# Altium footprint library LKS_motor_0310.PcbLib: 16 footprints
Each footprint in its own frame and in the unit in brackets; x right, y up, seen from the top. Pads: shape width x height; smd on the part's side, far side on the other; paste and mask are expansions set on the pad; w line width, h text height; cw(c..) or ccw(c..) is an arc to the next point about the centre after c.
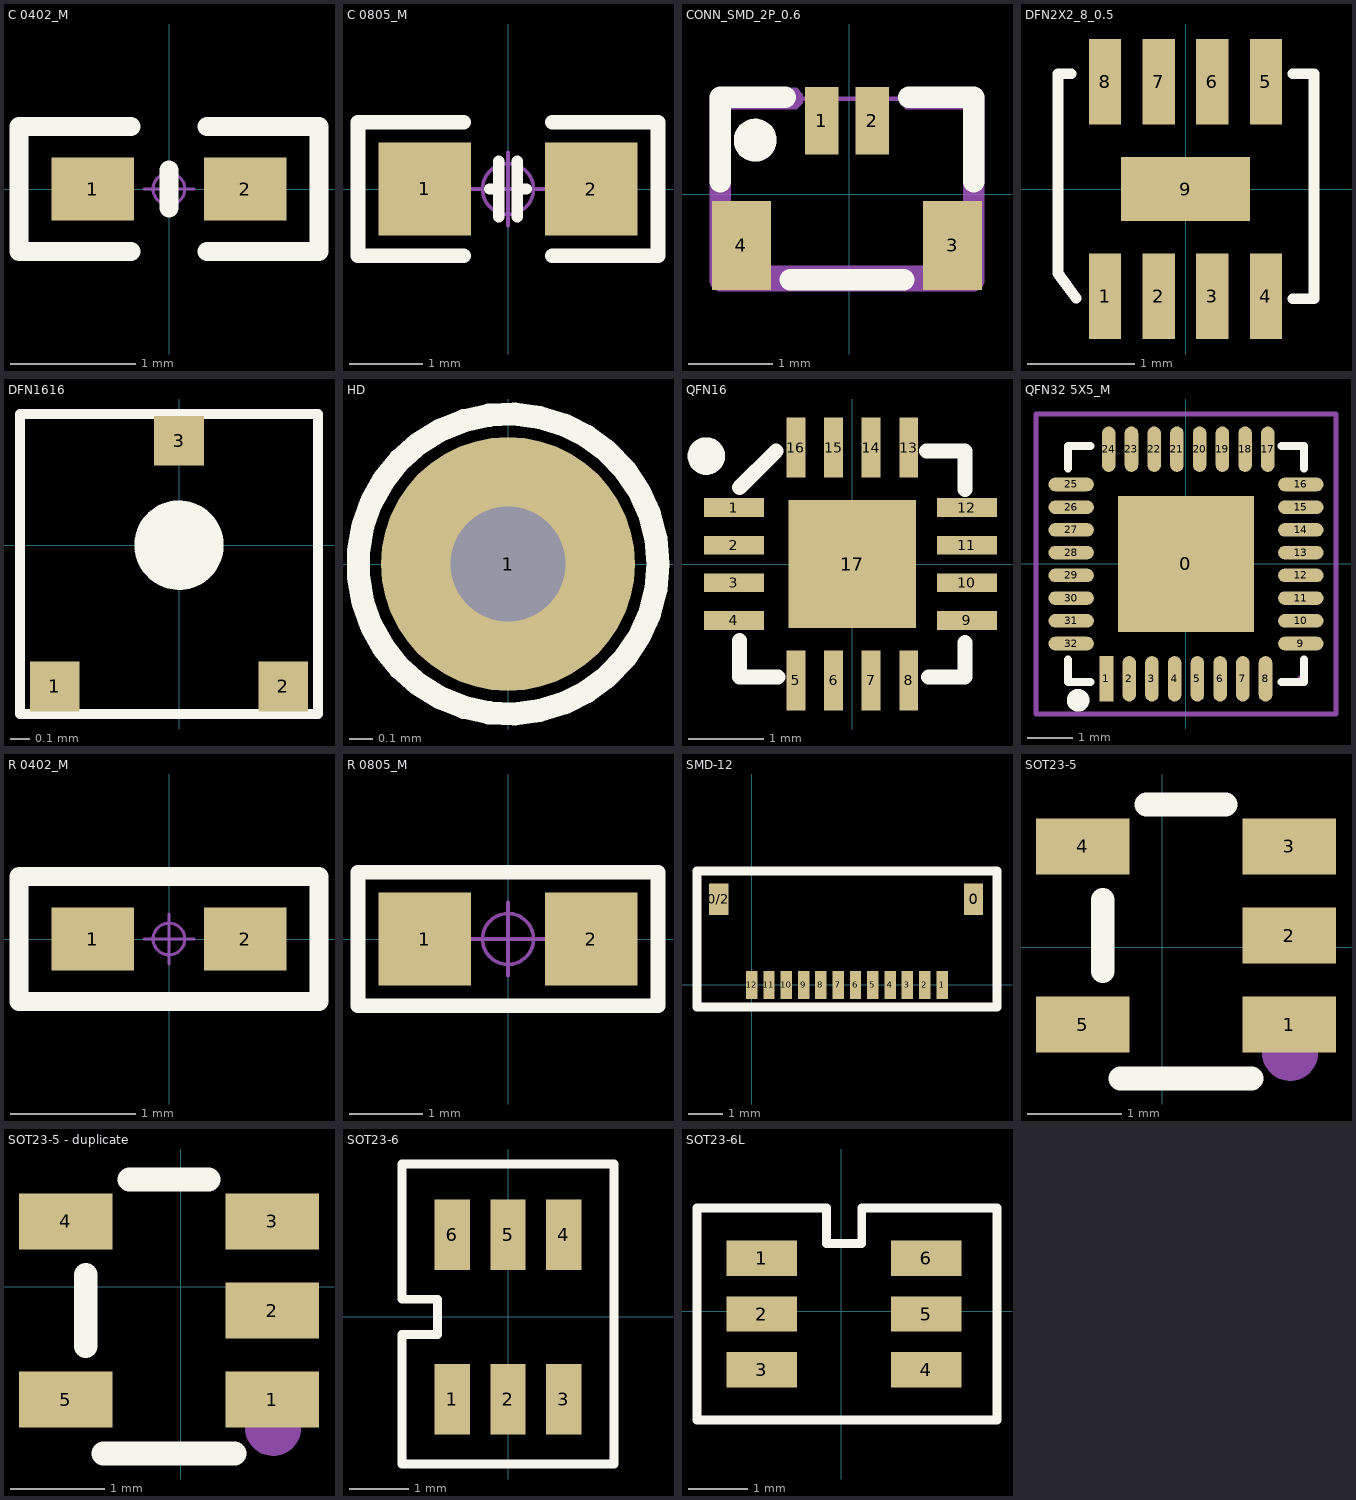
[diagram p0: the footprints below, top view; thin cyan lines are the x and y axes]

## C 0402_M [mil] "无极性贴片电容"
pads (2):
  rect 26x20 smd: 1(-24,0) 2(24,0)
Top Overlay:
  lines w6: -12,-19.68 -47.24,-19.68 -47.24,19.68 -12,19.68 ; 0,-6 0,6 ; 12,-19.68 47.24,-19.68 47.24,19.68 12,19.68
Mechanical 15:
  circle w1: c0,0 r5
  lines w1: -7.87,0 7.87,0 ; 0,-7.87 0,7.87
3D body "C 0402.STEP": height 20.68, standoff 0.21, extent -19.69,-10.24 19.69,10.24

## C 0805_M [mil] "无极性贴片电容"
height 19.68
pads (2):
  rect 50x50 smd: 1(-45,0) 2(45,0)
Top Overlay:
  lines w6: -10,0 -5,0 ; -5,-15 -5,15 ; 5,-15 5,15 ; 5,0 10,0
  lines w8: -24,-36 -81,-36 -81,36 -24,36 ; 24,-36 81,-36 81,36 24,36
Mechanical 15:
  circle w1.97: c0,0 r13.78
  lines w1.97: -19.69,0 19.69,0 ; 0,-19.69 0,19.69
3D body "C 0805.STEP": height 20.08, standoff -0.39, extent -39.37,-24.02 39.37,24.02

## CONN_SMD_2P_0.6 [mm]
pads (4):
  rect 0.4x0.8 smd: 1(-0.324,0.871) 2(0.276,0.871)
  rect 0.7x1.05 smd: 3(1.226,-0.604) 4(-1.274,-0.604)
Top Overlay:
  circle w0.254: c-1.11,0.642 r0.127
  lines w0.254: -1.524,0.153 -1.524,1.15 -0.755,1.15 ; -0.693,-1.009 0.645,-1.009 ; 0.707,1.15 1.476,1.15 1.476,0.153
Mechanical 6:
  region: -0.674,1.007 -1.397,1.007 -1.397,-0.889 1.349,-0.889 1.349,1.007 0.726,1.007 0.673,1.007 0.599,1.081 0.599,1.187 0.673,1.261 0.726,1.261 1.476,1.261 1.501,1.261 1.548,1.242 1.584,1.206 1.603,1.159 1.603,1.134 1.603,-1.016 1.603,-1.041 1.584,-1.088 1.548,-1.124 1.501,-1.143 1.476,-1.143 -1.524,-1.143 -1.549,-1.143 -1.596,-1.124 -1.632,-1.088 -1.651,-1.041 -1.651,-1.016 -1.651,1.134 -1.651,1.159 -1.632,1.206 -1.596,1.242 -1.549,1.261 -1.524,1.261 -0.674,1.261 -0.621,1.261 -0.547,1.187 -0.547,1.081 -0.621,1.007 -0.674,1.007
Mechanical 15:
  region: 0.376,0.671 0.176,0.671 0.176,1.071 0.376,1.071
  region: -0.224,0.671 -0.424,0.671 -0.424,1.071 -0.224,1.071
  region: 1.326,-0.866 1.126,-0.866 1.126,-0.166 1.326,-0.166
  region: -1.174,-0.866 -1.374,-0.866 -1.374,-0.166 -1.174,-0.166
  region: -1.464,1.134 -1.465,1.158 -1.5,1.192 -1.548,1.192 -1.583,1.158 -1.584,1.134 -1.583,1.11 -1.548,1.076 -1.5,1.076 -1.465,1.11 -1.464,1.134
  lines w0.051: -1.524,-0.866 -1.524,1.134 1.476,1.134 1.476,-0.866 -1.524,-0.866

## DFN2X2_8_0.5 [mm]
pads (9):
  rect 0.3x0.8 smd: 1(-0.75,-1) 2(-0.25,-1) 3(0.25,-1) 4(0.75,-1) 5(0.75,1) 6(0.25,1) 7(-0.25,1) 8(-0.75,1)
  rect 1.2x0.6 smd: 9(0,0)
Top Overlay:
  lines w0.1: -1.066,1.076 -1.191,1.076 -1.191,-0.789 -1.02,-1.02 ; 1,-1.024 1.2,-1.024 1.2,1.076 1,1.076

## DFN2X2_8L [mm]

## DFN1616 [mm]
pads (3):
  rect 0.25x0.25 smd: 1(-0.625,-0.711) 2(0.525,-0.711) 3(0,0.525)
Top Overlay:
  circle w0.25: c0,0 r0.1
  lines w0.05: -0.801,0.66 0.699,0.66 ; -0.8,-0.85 0.7,-0.85 ; -0.8,-0.838 -0.8,0.65 ; 0.7,-0.838 0.7,0.65

## HD [mm]
pads (1):
  round 1.1 hole 0.5: 1(0,0)
Top Overlay:
  circle w0.1: c0,0 r0.65

## QFN16 [mm] "3mm*3mm"
height 3
pads (17):
  rect 0.8x0.25 smd: 1(-1.575,0.75) 2(-1.575,0.25) 3(-1.575,-0.25) 4(-1.575,-0.75) 9(1.524,-0.75) 10(1.524,-0.25) 11(1.524,0.25) 12(1.524,0.75)
  rect 0.25x0.8 smd: 5(-0.75,-1.55) 6(-0.25,-1.55) 7(0.25,-1.55) 8(0.75,-1.55) 13(0.75,1.55) 14(0.25,1.55) 15(-0.25,1.55) 16(-0.75,1.55)
  rect 1.7x1.7 smd: 17(0,0)
Top Overlay:
  circle w0.25: c-1.941,1.436 r0.125
  lines w0.2: -1.5,-1.015 -1.5,-1.5 -0.989,-1.5 ; -1.5,1.016 -1.016,1.5 ; 0.989,1.5 1.5,1.5 1.5,0.989 ; 1.016,-1.5 1.5,-1.5 1.5,-1.041
3D body "QFN-16_3x3.STEP": height 0.9, standoff 0, extent -1.549,-1.521 1.493,1.521

## QFN32 5X5_M [mm] "32脚，长x宽x高：5x5x0.95mm，脚距：0.5mm"
pads (33):
  rect 3x3 smd: 0(0,0)
  rect 0.3x1 smd: 1(-1.751,-2.528)
  oval 0.3x1 smd: 2(-1.25,-2.528) 3(-0.75,-2.528) 4(-0.25,-2.528) 5(0.25,-2.528) 6(0.75,-2.528) 7(1.25,-2.528) 8(1.75,-2.528) 17(1.8,2.528) 18(1.3,2.528) 19(0.8,2.528) 20(0.3,2.528) 21(-0.2,2.528) 22(-0.7,2.528) 23(-1.2,2.528) 24(-1.7,2.528)
  oval 1x0.3 smd: 9(2.528,-1.75) 10(2.528,-1.25) 11(2.528,-0.75) 12(2.528,-0.25) 13(2.528,0.25) 14(2.528,0.75) 15(2.528,1.25) 16(2.528,1.75) 25(-2.528,1.75) 26(-2.528,1.25) 27(-2.528,0.75) 28(-2.528,0.25) 29(-2.528,-0.25) 30(-2.528,-0.75) 31(-2.528,-1.25) 32(-2.528,-1.75)
Top Overlay:
  circle w0.25: c-2.375,-3 r0.125
  lines w0.178: -2.6,-2.1 -2.6,-2.6 -2.1,-2.6 ; -2.6,2.1 -2.6,2.6 -2.1,2.6 ; 2.1,-2.6 2.6,-2.6 2.6,-2.1 ; 2.1,2.6 2.6,2.6 2.6,2.1
Mechanical 13:
  lines w0.1: 2.5,-2.501 2.501,-2.501
Mechanical 15:
  circle w0.05: c0,0 r0.35
  lines w0.05: -0.5,0 0.5,0 ; 0,-0.5 0,0.5
  lines w0.1: -3.302,-3.302 -3.302,3.302 3.302,3.302 3.302,-3.302 -3.302,-3.302

## R 0402_M [mil] "1/16W贴片电阻"
pads (2):
  rect 26x20 smd: 1(-24,0) 2(24,0)
Top Overlay:
  lines w6: -47.24,-19.68 47.24,-19.68 47.24,19.68 -47.24,19.68 -47.24,-19.68
Mechanical 15:
  circle w1: c0,0 r5
  lines w1: -7.87,0 7.87,0 ; 0,-7.87 0,7.87
3D body "R 0402.STEP": height 11.85, standoff -0.09, extent -19.68,-9.84 19.69,9.85

## R 0805_M [mil] "1/8W贴片电阻"
pads (2):
  rect 50x50 smd: 1(-45,0) 2(45,0)
Top Overlay:
  lines w8: -81,-36 -81,36 81,36 81,-36 -81,-36
Mechanical 15:
  circle w1.97: c0,0 r13.78
  lines w1.97: -19.68,0 19.68,0 ; 0,-19.68 0,19.68
3D body "R 0805.STEP": height 19.72, standoff -0.24, extent -39.37,-24.61 39.37,24.61

## SMD-12 [mil]
pads (14):
  rect 22x36 smd: 0(252.38,97.5) 0/2(-37.62,97.5)
  rect 13x32 smd: 1(216.53,0) 2(196.85,0) 3(177.16,0) 4(157.48,0) 5(137.79,0) 6(118.11,0) 7(98.42,0) 8(78.74,0) 9(59.05,0) 10(39.37,0) 11(19.68,0) 12(0,0)
Top Overlay:
  lines w10: -62.2,-25 279.04,-25 279.04,129.58 -62.2,129.58 -62.2,-25

## SOT23-5 [mm]
pads (5):
  rect 1x0.6 smd: 1(1.354,-0.823) 2(1.354,0.127) 3(1.354,1.077) 4(-0.846,1.077) 5(-0.846,-0.823)
Top Overlay:
  lines w0.254: -0.635,-0.254 -0.635,0.508 ; -0.445,-1.397 0.952,-1.397 ; -0.168,1.524 0.676,1.524
Mechanical 6:
  circle w0.3: c1.364,-1.123 r0.15

## SOT23-5 - duplicate [mm]
pads (5):
  rect 1x0.6 smd: 1(0.973,-1.204) 2(0.973,-0.254) 3(0.973,0.696) 4(-1.227,0.696) 5(-1.227,-1.204)
Top Overlay:
  lines w0.254: -1.016,-0.635 -1.016,0.127 ; -0.826,-1.778 0.571,-1.778 ; -0.549,1.143 0.295,1.143
Mechanical 6:
  circle w0.3: c0.983,-1.504 r0.15

## SOT23-6 [mm]
pads (6):
  rect 0.6x1.2 smd: 1(-0.95,-1.4) 2(0,-1.4) 3(0.95,-1.4) 4(0.95,1.4) 5(0,1.4) 6(-0.95,1.4)
Top Overlay:
  lines w0.15: -1.8,-2.5 1.8,-2.5 1.8,2.6 -1.8,2.6 -1.8,0.3 -1.2,0.3 -1.2,-0.3 -1.8,-0.3 -1.8,-2.5

## SOT23-6L [mm]
pads (6):
  rect 1.2x0.6 smd: 1(-1.349,0.899) 2(-1.349,-0.051) 3(-1.349,-1.001) 4(1.451,-1.001) 5(1.451,-0.051) 6(1.451,0.899)
Top Overlay:
  lines w0.15: -2.449,-1.851 2.651,-1.851 2.651,1.749 0.351,1.749 0.351,1.149 -0.249,1.149 -0.249,1.749 -2.449,1.749 -2.449,-1.851